# Altium schematic symbol library LMV331.Schlib: 1 symbol
Pins are listed as number, name and electrical type; pins without a type are passive.

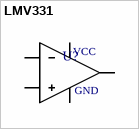
[diagram p0: symbol LMV331]

## LMV331
designator U?  (value not drawn)
Comparator, LM331, SOT-23-5
pins: 1, 2, 3, 4, 5
text: VCC; GND